# EAGLE library part IF_ETH_PHY_YT8512C (library !GPLIB_ACTIVE)
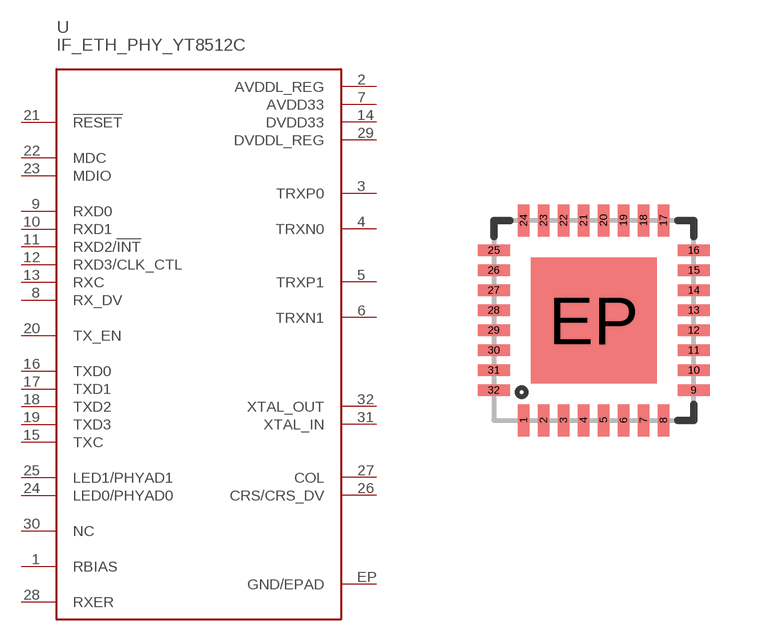
[diagram p113: symbol with the pads of QFN-32; footprint QFN-32]

Designator prefix U

## IF_ETH_PHY_YT8512C  [QFN-32]
1  RBIAS
2  AVDDL_REG
3  TRXP0  in
4  TRXN0  out
5  TRXP1  in
6  TRXN1  out
7  AVDD33
8  RX_DV
9  RXD0
10  RXD1
11  RXD2/!INT
12  RXD3/CLK_CTL
13  RXC
14  DVDD33
15  TXC
16  TXD0
17  TXD1
18  TXD2
19  TXD3
20  TX_EN
21  !RESET
22  MDC
23  MDIO
24  LED0/PHYAD0
25  LED1/PHYAD1
26  CRS/CRS_DV
27  COL
28  RXER
29  DVDDL_REG
30  NC
31  XTAL_IN
32  XTAL_OUT
EP  GND/EPAD

## Footprint QFN-32 (pad centres in mm)
smd 0.285 x 0.8: 1 -1.75,-2.5; 2 -1.25,-2.5; 3 -0.75,-2.5; 4 -0.25,-2.5; 5 0.25,-2.5; 6 0.75,-2.5; 7 1.25,-2.5; 8 1.75,-2.5; 17 1.75,2.5; 18 1.25,2.5; 19 0.75,2.5; 20 0.25,2.5; 21 -0.25,2.5; 22 -0.75,2.5; 23 -1.25,2.5; 24 -1.75,2.5
smd 0.8 x 0.285: 9 2.5,-1.75; 10 2.5,-1.25; 11 2.5,-0.75; 12 2.5,-0.25; 13 2.5,0.25; 14 2.5,0.75; 15 2.5,1.25; 16 2.5,1.75; 25 -2.5,1.75; 26 -2.5,1.25; 27 -2.5,0.75; 28 -2.5,0.25; 29 -2.5,-0.25; 30 -2.5,-0.75; 31 -2.5,-1.25; 32 -2.5,-1.75
smd 3.15 x 3.15: EP 0,0